# Altium schematic symbol library FM_Radio_Transmitter_Module.SchLib: 1 symbol
Pins are listed as number, name and electrical type; pins without a type are passive.

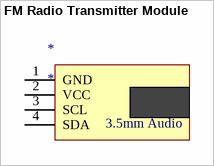
[diagram p0: symbol FM Radio Transmitter Module]

## FM Radio Transmitter Module
designator *
pins: 1 GND, 2 VCC, 3 SCL, 4 SDA
text: 3.5mm Audio